# Altium schematic symbol library Optoelectronic.SchLib: 138 symbols
Pins are listed as number, name and electrical type; pins without a type are passive.

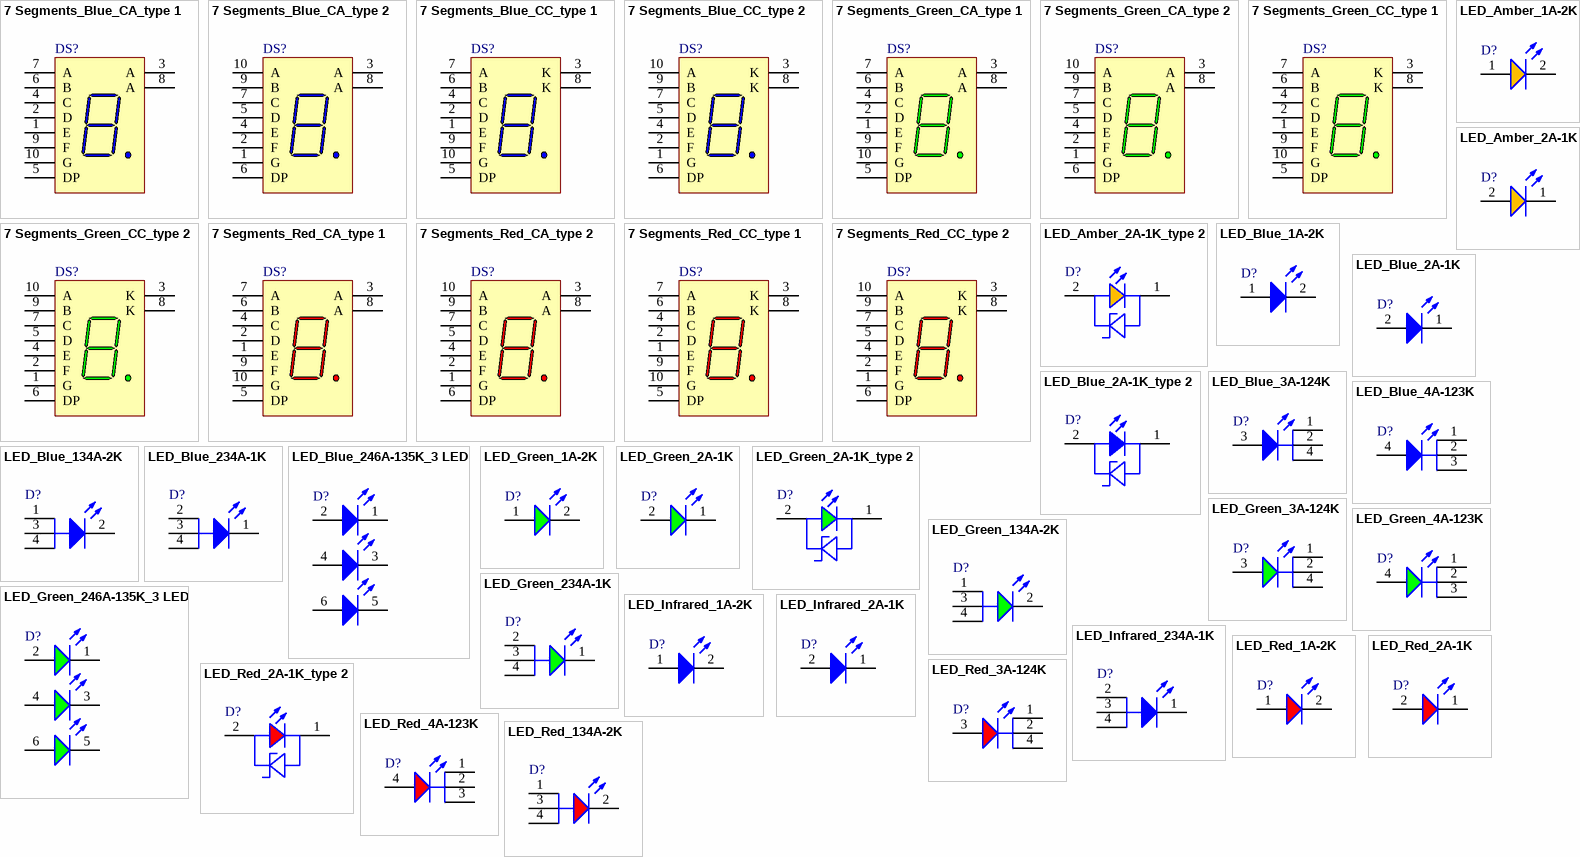
[diagram p0: symbols 7 Segments_Blue_CA_type 1 to LED_Red_134A-2K]

## 7 Segments_Blue_CA_type 1
designator DS?
pins: 1 E "Cathode", 2 D "Cathode", 3 A "Anode", 4 C "Cathode", 5 DP "Cathode", 6 B "Cathode", 7 A "Cathode", 8 A "Anode", 9 F "Cathode", 10 G "Cathode"

## 7 Segments_Blue_CA_type 2
designator DS?
pins: 1 G "Cathode", 2 F "Cathode", 3 A "Anode", 4 E "Cathode", 5 D "Cathode", 6 DP "Cathode", 7 C "Cathode", 8 A "Anode", 9 B "Cathode", 10 A "Cathode"

## 7 Segments_Blue_CC_type 1
designator DS?
pins: 1 E "Cathode", 2 D "Cathode", 3 K "Anode", 4 C "Cathode", 5 DP "Cathode", 6 B "Cathode", 7 A "Cathode", 8 K "Anode", 9 F "Cathode", 10 G "Cathode"

## 7 Segments_Blue_CC_type 2
designator DS?
pins: 1 G "Cathode", 2 F "Cathode", 3 K "Anode", 4 E "Cathode", 5 D "Cathode", 6 DP "Cathode", 7 C "Cathode", 8 K "Anode", 9 B "Cathode", 10 A "Cathode"

## 7 Segments_Green_CA_type 1
designator DS?
pins: 1 E "Cathode", 2 D "Cathode", 3 A "Anode", 4 C "Cathode", 5 DP "Cathode", 6 B "Cathode", 7 A "Cathode", 8 A "Anode", 9 F "Cathode", 10 G "Cathode"

## 7 Segments_Green_CA_type 2
designator DS?
pins: 1 G "Cathode", 2 F "Cathode", 3 A "Anode", 4 E "Cathode", 5 D "Cathode", 6 DP "Cathode", 7 C "Cathode", 8 A "Anode", 9 B "Cathode", 10 A "Cathode"

## 7 Segments_Green_CC_type 1
designator DS?
pins: 1 E "Cathode", 2 D "Cathode", 3 K "Anode", 4 C "Cathode", 5 DP "Cathode", 6 B "Cathode", 7 A "Cathode", 8 K "Anode", 9 F "Cathode", 10 G "Cathode"

## 7 Segments_Green_CC_type 2
designator DS?
pins: 1 G "Cathode", 2 F "Cathode", 3 K "Anode", 4 E "Cathode", 5 D "Cathode", 6 DP "Cathode", 7 C "Cathode", 8 K "Anode", 9 B "Cathode", 10 A "Cathode"

## 7 Segments_Red_CA_type 1
designator DS?
pins: 1 E "Cathode", 2 D "Cathode", 3 A "Anode", 4 C "Cathode", 5 DP "Cathode", 6 B "Cathode", 7 A "Cathode", 8 A "Anode", 9 F "Cathode", 10 G "Cathode"

## 7 Segments_Red_CA_type 2
designator DS?
pins: 1 G "Cathode", 2 F "Cathode", 3 A "Anode", 4 E "Cathode", 5 D "Cathode", 6 DP "Cathode", 7 C "Cathode", 8 A "Anode", 9 B "Cathode", 10 A "Cathode"

## 7 Segments_Red_CC_type 1
designator DS?
pins: 1 E "Cathode", 2 D "Cathode", 3 K "Anode", 4 C "Cathode", 5 DP "Cathode", 6 B "Cathode", 7 A "Cathode", 8 K "Anode", 9 F "Cathode", 10 G "Cathode"

## 7 Segments_Red_CC_type 2
designator DS?
pins: 1 G "Cathode", 2 F "Cathode", 3 K "Anode", 4 E "Cathode", 5 D "Cathode", 6 DP "Cathode", 7 C "Cathode", 8 K "Anode", 9 B "Cathode", 10 A "Cathode"

## LED_Amber_1A-2K
designator D?
pins: 1 A, 2 K

## LED_Amber_2A-1K
designator D?
pins: 1 K, 2 A

## LED_Amber_2A-1K_type 2
designator D?
pins: 1 K, 2 A

## LED_Blue_1A-2K
designator D?
pins: 1 A, 2 K

## LED_Blue_2A-1K
designator D?
pins: 1 K, 2 A

## LED_Blue_2A-1K_type 2
designator D?
pins: 1 K, 2 A

## LED_Blue_3A-124K
designator D?
pins: 1 K, 2 K, 3 A, 4 K

## LED_Blue_4A-123K
designator D?
pins: 1 K, 2 K, 3 K, 4 A

## LED_Blue_134A-2K
designator D?
pins: 1 A, 2 K, 3 A, 4 A

## LED_Blue_234A-1K
designator D?
pins: 1 K, 2 A, 3 A, 4 A

## LED_Blue_246A-135K_3 LED
designator D?
pins: 1 K, 2 A, 3 K, 4 A, 5 K, 6 A

## LED_Green_1A-2K
designator D?
pins: 1 A, 2 K

## LED_Green_2A-1K
designator D?
pins: 1 K, 2 A

## LED_Green_2A-1K_type 2
designator D?
pins: 1 K, 2 A

## LED_Green_3A-124K
designator D?
pins: 1 K, 2 K, 3 A, 4 K

## LED_Green_4A-123K
designator D?
pins: 1 K, 2 K, 3 K, 4 A

## LED_Green_134A-2K
designator D?
pins: 1 A, 2 K, 3 A, 4 A

## LED_Green_234A-1K
designator D?
pins: 1 K, 2 A, 3 A, 4 A

## LED_Green_246A-135K_3 LED
designator D?
pins: 1 K, 2 A, 3 K, 4 A, 5 K, 6 A

## LED_Infrared_1A-2K
designator D?
pins: 1 A, 2 K

## LED_Infrared_2A-1K
designator D?
pins: 1 K, 2 A

## LED_Infrared_234A-1K
designator D?
pins: 1 K, 2 A, 3 A, 4 A

## LED_Red_1A-2K
designator D?
pins: 1 A, 2 K

## LED_Red_2A-1K
designator D?
pins: 1 K, 2 A

## LED_Red_2A-1K_type 2
designator D?
pins: 1 K, 2 A

## LED_Red_3A-124K
designator D?
pins: 1 K, 2 K, 3 A, 4 K

## LED_Red_4A-123K
designator D?
pins: 1 K, 2 K, 3 K, 4 A

## LED_Red_134A-2K
designator D?
pins: 1 A, 2 K, 3 A, 4 A

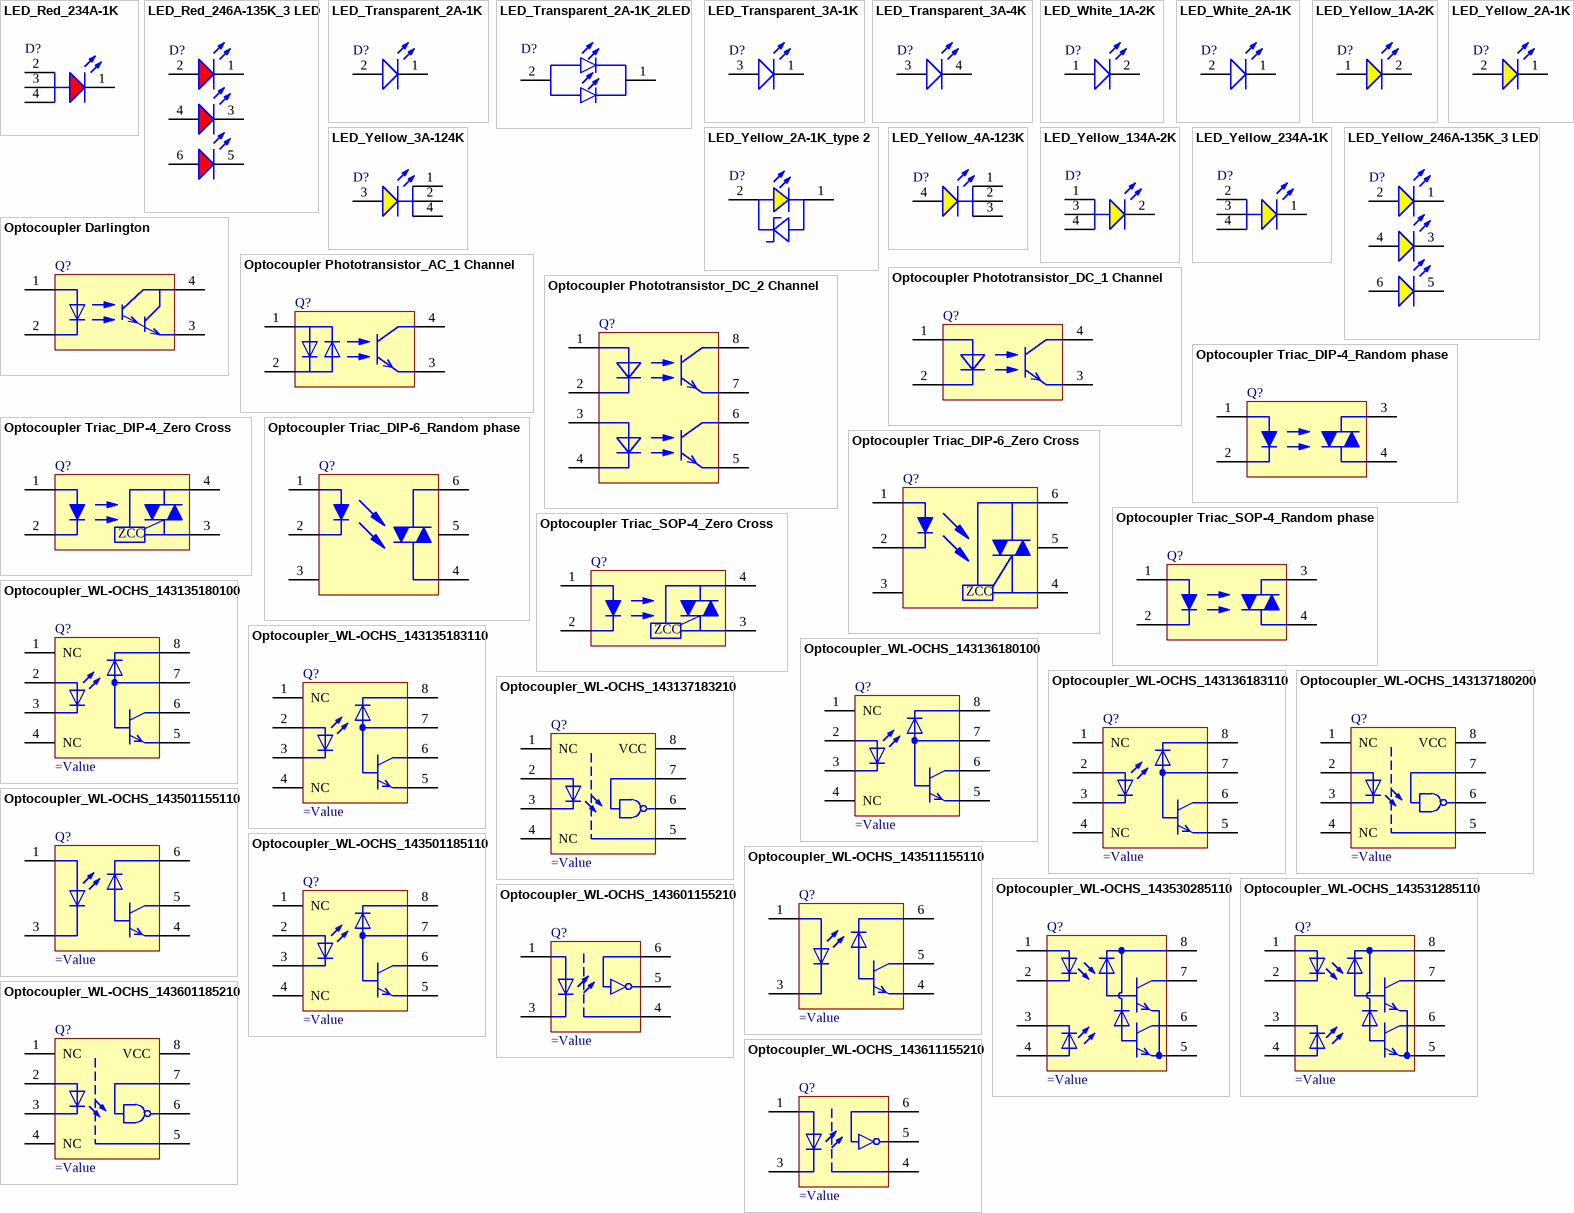
[diagram p1: symbols LED_Red_234A-1K to Optocoupler_WL-OCHS_143611155210]

## LED_Red_234A-1K
designator D?
pins: 1 K, 2 A, 3 A, 4 A

## LED_Red_246A-135K_3 LED
designator D?
pins: 1 K, 2 A, 3 K, 4 A, 5 K, 6 A

## LED_Transparent_2A-1K
designator D?
pins: 1 K, 2 A

## LED_Transparent_2A-1K_2LED
designator D?
pins: 1 K, 2 A

## LED_Transparent_3A-1K
designator D?
pins: 1 K, 3 A

## LED_Transparent_3A-4K
designator D?
pins: 3 A, 4 K

## LED_White_1A-2K
designator D?
pins: 1 A, 2 K

## LED_White_2A-1K
designator D?
pins: 1 K, 2 A

## LED_Yellow_1A-2K
designator D?
pins: 1 A, 2 K

## LED_Yellow_2A-1K
designator D?
pins: 1 K, 2 A

## LED_Yellow_2A-1K_type 2
designator D?
pins: 1 K, 2 A

## LED_Yellow_3A-124K
designator D?
pins: 1 K, 2 K, 3 A, 4 K

## LED_Yellow_4A-123K
designator D?
pins: 1 K, 2 K, 3 K, 4 A

## LED_Yellow_134A-2K
designator D?
pins: 1 A, 2 K, 3 A, 4 A

## LED_Yellow_234A-1K
designator D?
pins: 1 K, 2 A, 3 A, 4 A

## LED_Yellow_246A-135K_3 LED
designator D?
pins: 1 K, 2 A, 3 K, 4 A, 5 K, 6 A

## Optocoupler Darlington
designator Q?
pins: 1 Anode, 2 Cathode, 3 Emitter, 4 Collector

## Optocoupler Phototransistor_AC_1 Channel
designator Q?
pins: 1 Anode/Cathode, 2 Anode/Cathode, 3 Emitter, 4 Collector

## Optocoupler Phototransistor_DC_1 Channel
designator Q?
pins: 1 Anode, 2 Cathode, 3 Emitter, 4 Collector

## Optocoupler Phototransistor_DC_2 Channel
designator Q?
pins: 1 Anode, 2 Cathode, 3 Anode, 4 Cathode, 5 Emitter, 6 Collector, 7 Emitter, 8 Collector

## Optocoupler Triac_DIP-4_Random phase
designator Q?
pins: 1 Anode, 2 Cathode, 3 Terminal, 4 Terminal

## Optocoupler Triac_DIP-4_Zero Cross
designator Q?
pins: 1 Anode, 2 Cathode, 3 Terminal, 4 Terminal
text: ZCC

## Optocoupler Triac_DIP-6_Random phase
designator Q?
pins: 1 Anode, 2 Cathode, 3 NC, 4 Terminal, 5 NC, 6 Terminal

## Optocoupler Triac_DIP-6_Zero Cross
designator Q?
pins: 1 Anode, 2 Cathode, 3 NC, 4 Terminal, 5 NC, 6 Terminal
text: ZCC

## Optocoupler Triac_SOP-4_Random phase
designator Q?
pins: 1 Anode, 2 Cathode, 3 Terminal, 4 Terminal

## Optocoupler Triac_SOP-4_Zero Cross
designator Q?
pins: 1 Anode, 2 Cathode, 3 Terminal, 4 Terminal
text: ZCC

## Optocoupler_WL-OCHS_143135180100
designator Q?
pins: 1 NC, 2 ANODE, 3 CATHODE, 4 NC, 5 GND, 6 VOUT, 7 VBASE, 8 VCC

## Optocoupler_WL-OCHS_143135183110
designator Q?
pins: 1 NC, 2 ANODE, 3 CATHODE, 4 NC, 5 GND, 6 VOUT, 7 VBASE, 8 VCC

## Optocoupler_WL-OCHS_143136180100
designator Q?
pins: 1 NC, 2 ANODE, 3 CATHODE, 4 NC, 5 GND, 6 VOUT, 7 VBASE, 8 VCC

## Optocoupler_WL-OCHS_143136183110
designator Q?
pins: 1 NC, 2 ANODE, 3 CATHODE, 4 NC, 5 GND, 6 VOUT, 7 VBASE, 8 VCC

## Optocoupler_WL-OCHS_143137180200
designator Q?
pins: 1 NC, 2 ANODE, 3 CATHODE, 4 NC, 5 GND, 6 VOUT, 7 EN, 8 VCC

## Optocoupler_WL-OCHS_143137183210
designator Q?
pins: 1 NC, 2 ANODE, 3 CATHODE, 4 NC, 5 GND, 6 VOUT, 7 EN, 8 VCC

## Optocoupler_WL-OCHS_143501155110
designator Q?
pins: 1 ANODE, 3 CATHODE, 4 GND, 5 VOUT, 6 VCC

## Optocoupler_WL-OCHS_143501185110
designator Q?
pins: 1 NC, 2 ANODE, 3 CATHODE, 4 NC, 5 GND, 6 VOUT, 7 VBASE, 8 VCC

## Optocoupler_WL-OCHS_143511155110
designator Q?
pins: 1 ANODE, 3 CATHODE, 4 GND, 5 VOUT, 6 VCC

## Optocoupler_WL-OCHS_143530285110
designator Q?
pins: 1 ANODE1, 2 CATHODE1, 3 CATHODE2, 4 ANODE2, 5 GND, 6 VOUT2, 7 VOUT1, 8 VCC

## Optocoupler_WL-OCHS_143531285110
designator Q?
pins: 1 ANODE1, 2 CATHODE1, 3 CATHODE2, 4 ANODE2, 5 GND, 6 VOUT2, 7 VOUT1, 8 VCC

## Optocoupler_WL-OCHS_143601155210
designator Q?
pins: 1 ANODE, 3 CATHODE, 4 GND, 5 VOUT, 6 VCC

## Optocoupler_WL-OCHS_143601185210
designator Q?
pins: 1 NC, 2 ANODE, 3 CATHODE, 4 NC, 5 GND, 6 VOUT, 7 EN, 8 VCC

## Optocoupler_WL-OCHS_143611155210
designator Q?
pins: 1 ANODE, 3 CATHODE, 4 GND, 5 VOUT, 6 VCC

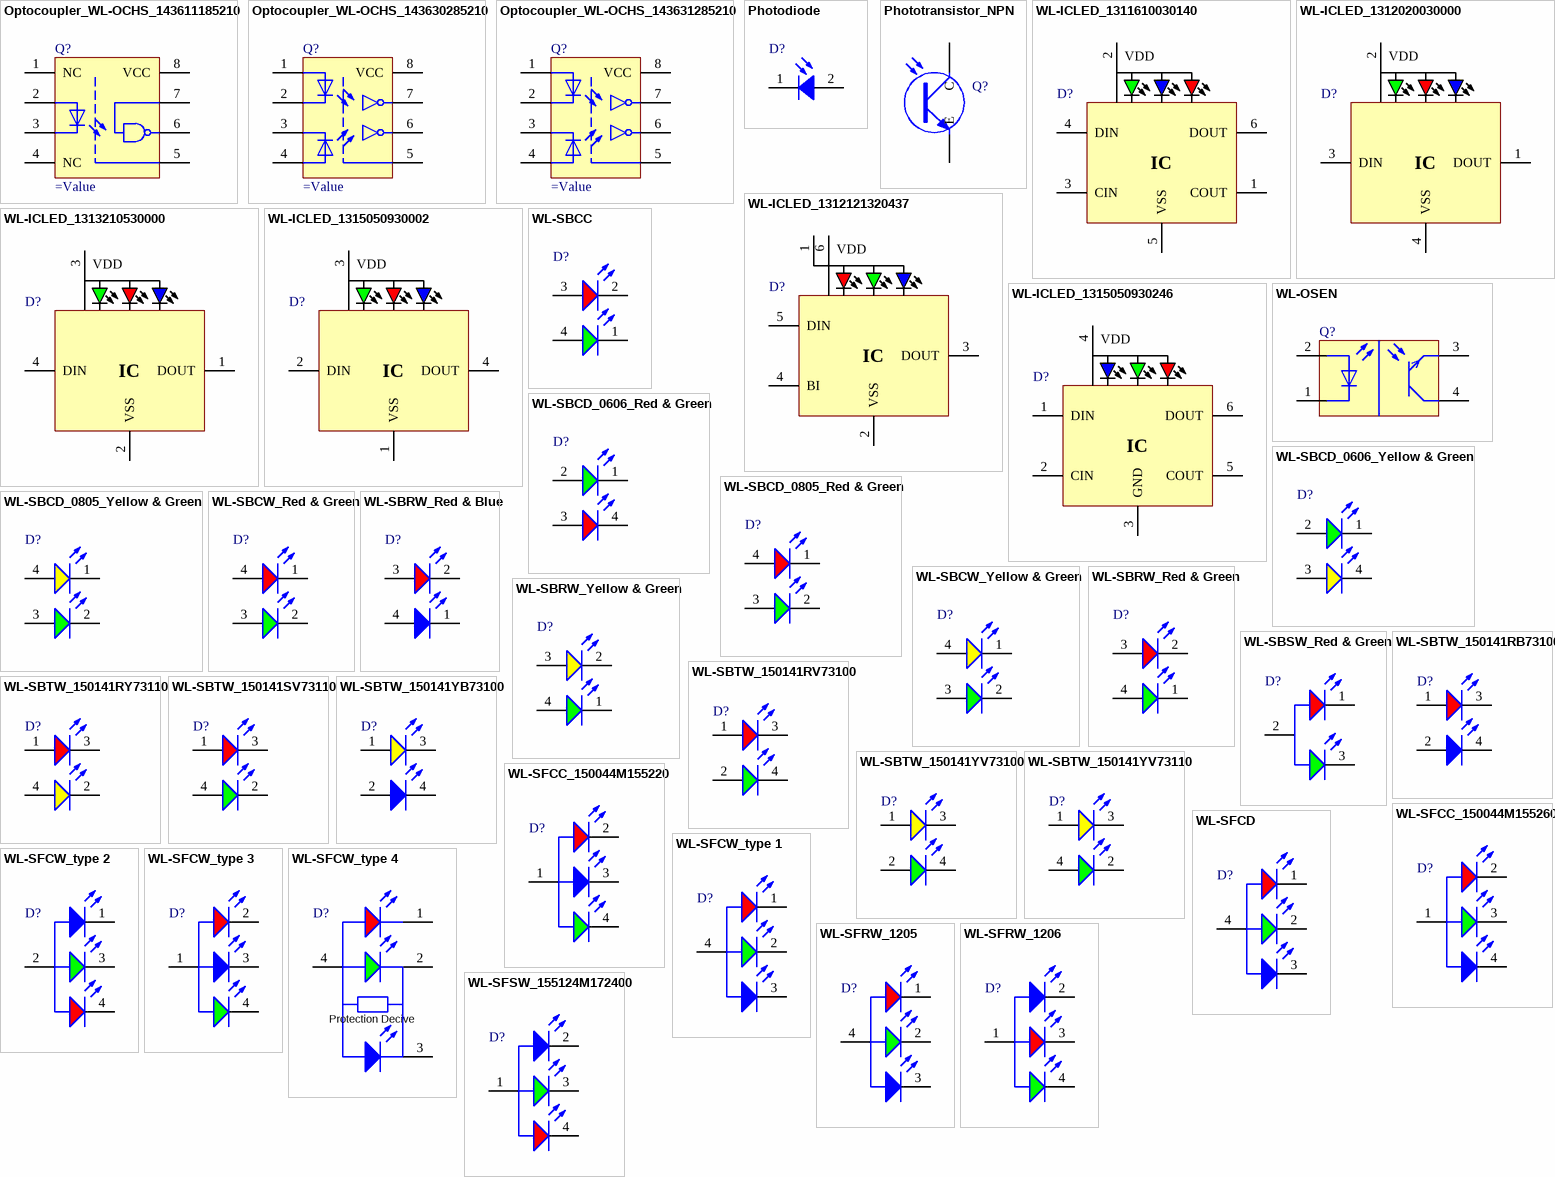
[diagram p2: symbols Optocoupler_WL-OCHS_143611185210 to WL-SFSW_155124M172400]

## Optocoupler_WL-OCHS_143611185210
designator Q?
pins: 1 NC, 2 ANODE, 3 CATHODE, 4 NC, 5 GND, 6 VOUT, 7 EN, 8 VCC

## Optocoupler_WL-OCHS_143630285210
designator Q?
pins: 1 ANODE1, 2 CATHODE1, 3 CATHODE2, 4 ANODE2, 5 GND, 6 VOUT2, 7 VOUT1, 8 VCC

## Optocoupler_WL-OCHS_143631285210
designator Q?
pins: 1 ANODE1, 2 CATHODE1, 3 CATHODE2, 4 ANODE2, 5 GND, 6 VOUT2, 7 VOUT1, 8 VCC

## Photodiode
designator D?
pins: 1 K, 2 A

## Phototransistor_NPN
designator Q?
pins: 1 C, 2 E

## WL-ICLED_1311610030140
designator D?
pins: 1 COUT, 2 VDD, 3 CIN, 4 DIN, 5 VSS, 6 DOUT
text: IC

## WL-ICLED_1312020030000
designator D?
pins: 1 DOUT, 2 VDD, 3 DIN, 4 VSS
text: IC

## WL-ICLED_1312121320437
designator D?
pins: 1 VDD, 2 VSS, 3 DOUT, 4 BI, 5 DIN, 6 VDD
text: IC

## WL-ICLED_1313210530000
designator D?
pins: 1 DOUT, 2 VSS, 3 VDD, 4 DIN
text: IC

## WL-ICLED_1315050930002
designator D?
pins: 1 VSS, 2 DIN, 3 VDD, 4 DOUT
text: IC

## WL-ICLED_1315050930246
designator D?
pins: 1 DIN, 2 CIN, 3 GND, 4 VDD, 5 COUT, 6 DOUT
text: IC

## WL-OSEN
designator Q?
pins: 1 Cathode, 2 Anode, 3 Emitter, 4 Collector

## WL-SBCC
designator D?
pins: 1 K, 2 K, 3 A, 4 A

## WL-SBCD_0606_Red & Green
designator D?
pins: 1 K, 2 A, 3 A, 4 K

## WL-SBCD_0606_Yellow & Green
designator D?
pins: 1 K, 2 A, 3 A, 4 K

## WL-SBCD_0805_Red & Green
designator D?
pins: 1 K, 2 K, 3 A, 4 A

## WL-SBCD_0805_Yellow & Green
designator D?
pins: 1 K, 2 K, 3 A, 4 A

## WL-SBCW_Red & Green
designator D?
pins: 1 K, 2 K, 3 A, 4 A

## WL-SBCW_Yellow & Green
designator D?
pins: 1 K, 2 K, 3 A, 4 A

## WL-SBRW_Red & Blue
designator D?
pins: 1 K, 2 K, 3 A, 4 A

## WL-SBRW_Red & Green
designator D?
pins: 1 K, 2 K, 3 A, 4 A

## WL-SBRW_Yellow & Green
designator D?
pins: 1 K, 2 K, 3 A, 4 A

## WL-SBSW_Red & Green
designator D?
pins: 1 K, 2 A, 3 K

## WL-SBTW_150141RB73100
designator D?
pins: 1 A, 2 A, 3 K, 4 K

## WL-SBTW_150141RV73100
designator D?
pins: 1 A, 2 A, 3 K, 4 K

## WL-SBTW_150141RY73110
designator D?
pins: 1 A, 2 K, 3 K, 4 A

## WL-SBTW_150141SV73110
designator D?
pins: 1 A, 2 K, 3 K, 4 A

## WL-SBTW_150141YB73100
designator D?
pins: 1 A, 2 A, 3 K, 4 K

## WL-SBTW_150141YV73100
designator D?
pins: 1 A, 2 A, 3 K, 4 K

## WL-SBTW_150141YV73110
designator D?
pins: 1 A, 2 K, 3 K, 4 A

## WL-SFCC_150044M155220
designator D?
pins: 1 A, 2 K, 3 K, 4 K

## WL-SFCC_150044M155260
designator D?
pins: 1 A, 2 K, 3 K, 4 K

## WL-SFCD
designator D?
pins: 1 K, 2 K, 3 K, 4 A

## WL-SFCW_type 1
designator D?
pins: 1 K, 2 K, 3 K, 4 A

## WL-SFCW_type 2
designator D?
pins: 1 K, 2 A, 3 K, 4 K

## WL-SFCW_type 3
designator D?
pins: 1 A, 2 K, 3 K, 4 K

## WL-SFCW_type 4
designator D?
pins: 1 K, 2 K, 3 K, 4 A
text: Protection Decive

## WL-SFRW_1205
designator D?
pins: 1 K, 2 K, 3 K, 4 A

## WL-SFRW_1206
designator D?
pins: 1 A, 2 K, 3 K, 4 K

## WL-SFSW_155124M172400
designator D?
pins: 1 A, 2 K, 3 K, 4 K

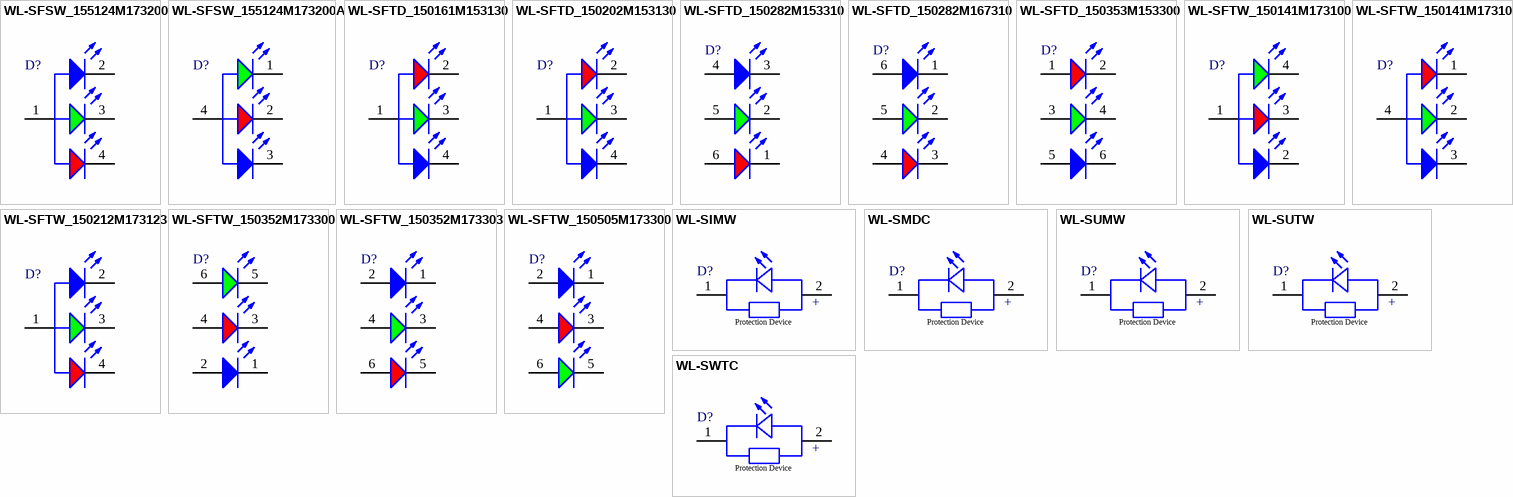
[diagram p3: symbols WL-SFSW_155124M173200 to WL-SWTC]

## WL-SFSW_155124M173200
designator D?
pins: 1 A, 2 K, 3 K, 4 K

## WL-SFSW_155124M173200A
designator D?
pins: 1 K, 2 K, 3 K, 4 A

## WL-SFTD_150161M153130
designator D?
pins: 1 A, 2 K, 3 K, 4 K

## WL-SFTD_150202M153130
designator D?
pins: 1 A, 2 K, 3 K, 4 K

## WL-SFTD_150282M153310
designator D?
pins: 1 K, 2 K, 3 K, 4 A, 5 A, 6 A

## WL-SFTD_150282M167310
designator D?
pins: 1 K, 2 K, 3 K, 4 A, 5 A, 6 A

## WL-SFTD_150353M153300
designator D?
pins: 1 A, 2 K, 3 A, 4 K, 5 A, 6 K

## WL-SFTW_150141M173100
designator D?
pins: 1 A, 2 K, 3 K, 4 K

## WL-SFTW_150141M173103
designator D?
pins: 1 K, 2 K, 3 K, 4 A

## WL-SFTW_150212M173123
designator D?
pins: 1 A, 2 K, 3 K, 4 K

## WL-SFTW_150352M173300
designator D?
pins: 1 K, 2 A, 3 K, 4 A, 5 K, 6 A

## WL-SFTW_150352M173303
designator D?
pins: 1 K, 2 A, 3 K, 4 A, 5 K, 6 A

## WL-SFTW_150505M173300
designator D?
pins: 1 K, 2 A, 3 K, 4 A, 5 K, 6 A

## WL-SIMW
designator D?
pins: 1 K, 2 A
text: +; Protection Device

## WL-SMDC
designator D?
pins: 1 K, 2 A
text: +; Protection Device

## WL-SUMW
designator D?
pins: 1 K, 2 A
text: +; Protection Device

## WL-SUTW
designator D?
pins: 1 K, 2 A
text: +; Protection Device

## WL-SWTC
designator D?
pins: 1 K, 2 A
text: +; Protection Device